# Altium footprint library a1.PcbLib: 7 footprints
Each footprint in its own frame and in the unit in brackets; x right, y up, seen from the top. Pads: shape width x height; smd on the part's side, far side on the other; paste and mask are expansions set on the pad; w line width, h text height; cw(c..) or ccw(c..) is an arc to the next point about the centre after c.
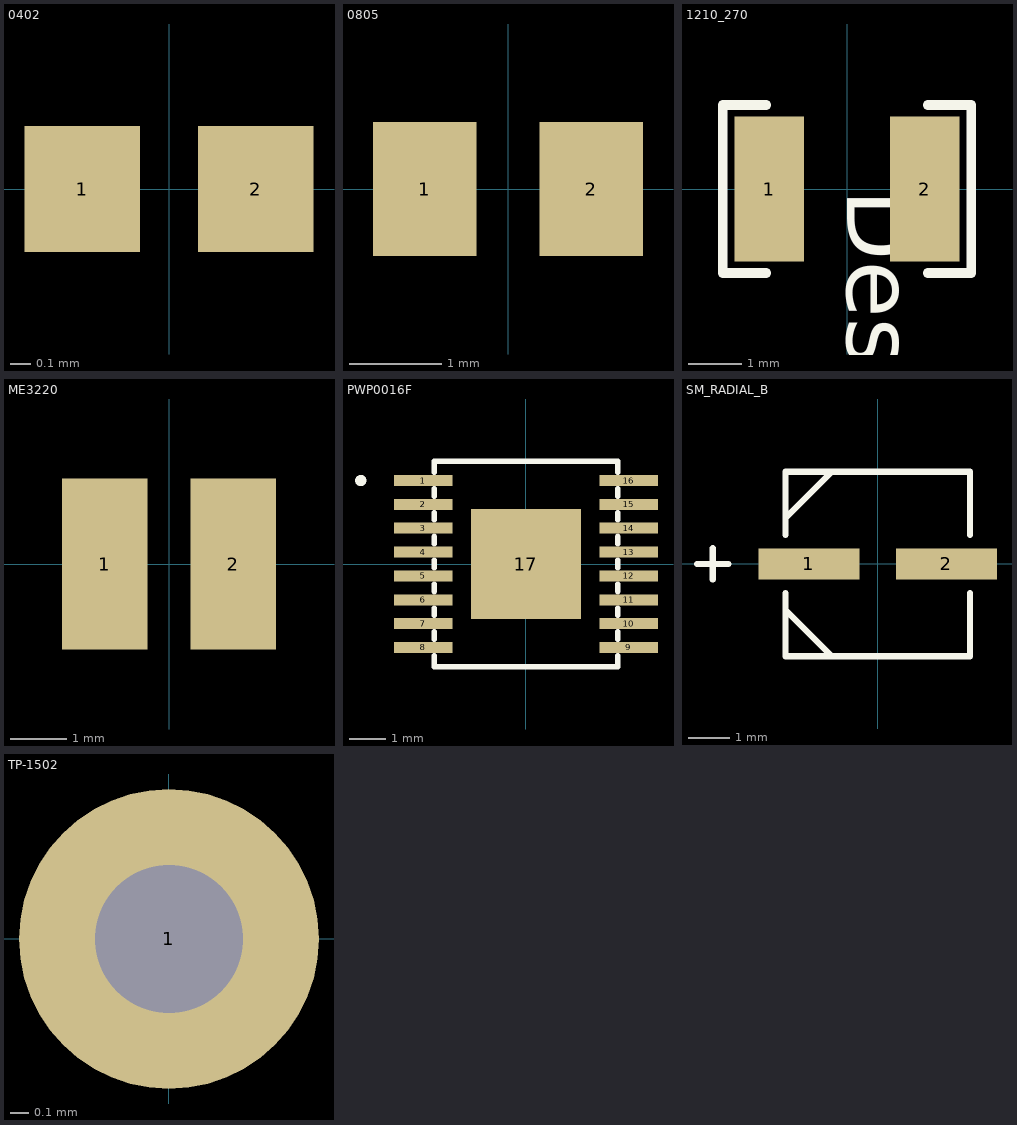
[diagram p0: the footprints below, top view; thin cyan lines are the x and y axes]

## 0402 [mil]
pads (2):
  rect 22x24 smd: 1(-16.5,0) 2(16.5,0)

## 0805 [mil]
pads (2):
  rect 44x57 smd: 1(-35.5,0) 2(35.5,0)

## 1210_270 [mm]
pads (2):
  rect 1.3x2.7 smd: 1(-1.45,0) 2(1.45,0)
Top Overlay:
  lines w0.178: -1.511,-1.568 -2.316,-1.568 -2.316,1.568 -1.511,1.568 ; 1.511,-1.568 2.316,-1.568 2.316,1.568 1.511,1.568
  text "Designator53" at 0,0 h1.27

## ME3220 [mil]
pads (2):
  rect 60x120 smd: 1(-45,0) 2(45,0)

## PWP0016F [mm]
pads (17):
  rect 1.6x0.3 smd: 1(-2.8,2.275) 2(-2.8,1.625) 3(-2.8,0.975) 4(-2.8,0.325) 5(-2.8,-0.325) 6(-2.8,-0.975) 7(-2.8,-1.625) 8(-2.8,-2.275) 9(2.8,-2.275) 10(2.8,-1.625) 11(2.8,-0.975) 12(2.8,-0.325) 13(2.8,0.325) 14(2.8,0.975) 15(2.8,1.625) 16(2.8,2.275)
  rect 3x3 smd: 17(0,0)
Top Overlay:
  circle w0.152: c-4.502,2.275 r0.076
  lines w0.152: -2.504,-2.501 -2.504,-2.804 2.504,-2.804 2.504,-2.501 ; -2.504,-2.049 -2.504,-1.851 ; -2.504,-1.399 -2.504,-1.201 ; -2.504,-0.749 -2.504,-0.551 ; -2.504,-0.099 -2.504,0.099 ; -2.504,0.551 -2.504,0.749 ; -2.504,1.201 -2.504,1.399 ; -2.504,1.851 -2.504,2.049 ; -2.504,2.501 -2.504,2.804 2.504,2.804 2.504,2.501 ; 2.504,-2.049 2.504,-1.851 ; 2.504,-1.399 2.504,-1.201 ; 2.504,-0.749 2.504,-0.551 ; 2.504,-0.099 2.504,0.099 ; 2.504,0.551 2.504,0.749 ; 2.504,1.201 2.504,1.399 ; 2.504,1.851 2.504,2.049

## SM_RADIAL_B [mil]
pads (2):
  rect 97x30 smd: 1(-66,0) 2(66,0)
Top Overlay:
  lines w6: -173.5,0 -143.5,0 ; -158.5,-15 -158.5,15 ; -88.5,-44.25 -44.25,-88.5 ; -88.5,-28.1 -88.5,-88.5 88.5,-88.5 88.5,-28.1 ; -88.5,28.1 -88.5,88.5 88.5,88.5 88.5,28.1 ; -88.5,44.25 -44.25,88.5

## TP-1502 [mil]
pads (1):
  round 65 / inner round 0 / far side round 65 hole 32 unplated: 1(0,0)